# EAGLE library part LP877451A1RXVR (library mmWAVE)
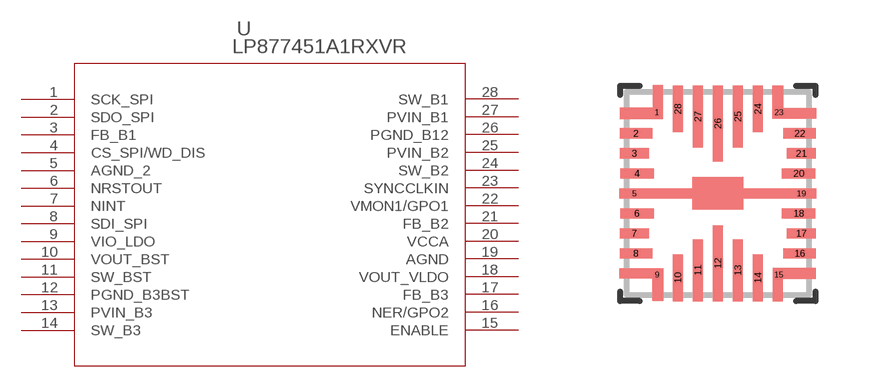
[diagram p2: symbol with the pads of VQFN-HR28_RXV_TEX; footprint VQFN-HR28_RXV_TEX]

Designator prefix U

## LP877451A1RXVR (COPYRIGHT: Copyright (C) 2025 Ultra Librarian. All rights reserved.; MANUFACTURER_PART_NUMBER: LP877451A1RXVR; MFR_NAME: Texas Instruments; TYPE: Power Management)  [VQFN-HR28_RXV_TEX]
1  SCK_SPI  in
2  SDO_SPI  out
3  FB_B1  pas
4  CS_SPI/WD_DIS  in
5  AGND_2  pas
6  NRSTOUT  out
7  NINT  out
8  SDI_SPI  in
9  VIO_LDO  pas
10  VOUT_BST  pas
11  SW_BST  pas
12  PGND_B3BST  pas
13  PVIN_B3  pwr
14  SW_B3  pas
15  ENABLE  in
16  NER/GPO2  pas
17  FB_B3
18  VOUT_VLDO  pwr
19  AGND  pas
20  VCCA  pwr
21  FB_B2  pas
22  VMON1/GPO1  pas
23  SYNCCLKIN  in
24  SW_B2  pas
25  PVIN_B2  pwr
26  PGND_B12  pas
27  PVIN_B1  pwr
28  SW_B1  pas

## Footprint VQFN-HR28_RXV_TEX (pad centres in mm)
smd 0.127 x 0.127: 1 -1.524,2.032; 5 -2.088,0; 9 -1.524,-2.032; 15 1.524,-2.032; 19 2.088,0; 23 1.524,2.032
smd 0.813 x 0.254: 2 -2.05,1.501; 8 -2.05,-1.501; 16 2.05,-1.501; 22 2.05,1.501
smd 0.737 x 0.254: 3 -2.088,1.001; 7 -2.088,-1.001; 17 2.088,-1.001; 21 2.088,1.001
smd 0.838 x 0.254: 4 -2.024,0.5; 6 -2.024,-0.5; 18 2.024,-0.5; 20 2.024,0.5
smd 0.254 x 1.168: 10 -1.001,-2.113; 14 1.001,-2.113; 24 1.001,2.113; 28 -1.001,2.113
smd 0.254 x 1.549: 11 -0.5,-1.925; 13 0.5,-1.925; 25 0.5,1.925; 27 -0.5,1.925
smd 0.254 x 1.905: 12 0,-1.75; 26 0,1.75